# EAGLE library part 691414720006 (library Wuerth_Elektronik_eiCan_Terminal_Blocks_v2.0)
WR-TBL Serie 4147 - 5.0mm Screwless 45° Entry - 3 mm2 Wires, 6 Pins
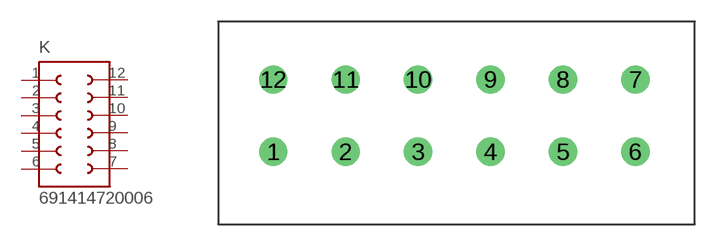
[diagram p257: symbol with the pads of 691414720006; footprint 691414720006]

Designator prefix K

## 691414720006  [691414720006]
1  1  pas
2  2  pas
3  3  pas
4  4  pas
5  5  pas
6  6  pas
7  7  pas
8  8  pas
9  9  pas
10  10  pas
11  11  pas
12  12  pas

## Footprint 691414720006 (pad centres in mm)
WR-TBL Serie 4147 - 5.0mm Screwless 45° Entry - 3 mm2 Wires, 6 Pins
drill 1.3 round: 1 -5,0; 2 0,0; 3 5,0; 4 10,0; 5 15,0; 6 20,0; 7 20,5; 8 15,5; 9 10,5; 10 5,5; 11 0,5; 12 -5,5